# Altium footprint library HRO_TYPE-C-31-M-12.PcbLib: 1 footprints
Each footprint in its own frame and in the unit in brackets; x right, y up, seen from the top. Pads: shape width x height; smd on the part's side, far side on the other; paste and mask are expansions set on the pad; w line width, h text height; cw(c..) or ccw(c..) is an arc to the next point about the centre after c.
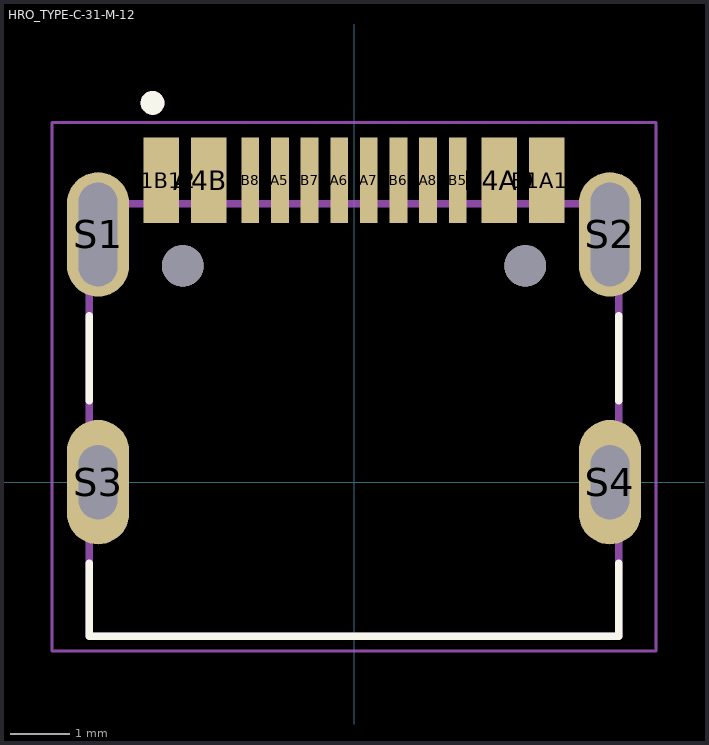
[diagram p0: the footprint, top view; thin cyan lines are the x and y axes]

## HRO_TYPE-C-31-M-12 [mm]
pads (18):
  rect 0.6x1.45 smd: A1B12(-3.25,5.095) A4B9(-2.45,5.095) B1A12(3.25,5.095) B4A9(2.45,5.095)
  rect 0.3x1.45 smd: A5(-1.25,5.095) A6(-0.25,5.095) A7(0.25,5.095) A8(1.25,5.095) B5(1.75,5.095) B6(0.75,5.095) B7(-0.75,5.095) B8(-1.75,5.095)
  oval 1.05x2.1 hole 0.65 slot 1.75 at 90 deg: S1(-4.32,4.18) S2(4.32,4.18)
  oval 1.05x2.1 hole 0.65 slot 1.25 at 90 deg: S3(-4.32,0) S4(4.32,0)
  round 0.7 hole 0.7 unplated: ""(-2.89,3.65) ""(2.89,3.65)
Top Overlay:
  circle w0.2: c-3.4,6.4 r0.1
  lines w0.127: -4.47,-1.37 -4.47,-2.6 4.47,-2.6 4.47,-1.37 ; -4.47,1.37 -4.47,2.81 ; 4.47,1.37 4.47,2.81
Mechanical 13:
  circle w0.2: c-3.4,6.4 r0.1
  lines w0.127: -4.47,-2.6 4.47,-2.6 4.47,4.7 -4.47,4.7 -4.47,-2.6
Mechanical 15:
  lines w0.05: -5.095,-2.85 5.095,-2.85 5.095,6.07 -5.095,6.07 -5.095,-2.85